# Altium schematic symbol library IPEX_Antenna.SchLib: 1 symbol
Pins are listed as number, name and electrical type; pins without a type are passive.

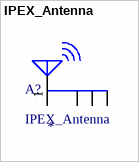
[diagram p0: symbol IPEX_Antenna]

## IPEX_Antenna
designator A?
2.4GHz IPEX_Antenna; LCSC: *
footprint IPEX_Antenna
pins: 1, 2, 3, 4